# Altium schematic symbol library GPS.SchLib: 2 symbols
Pins are listed as number, name and electrical type; pins without a type are passive.

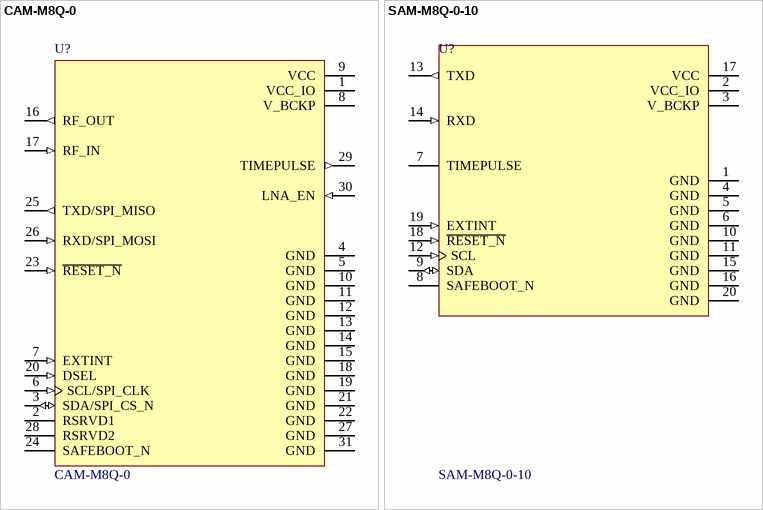
[diagram p0: symbols CAM-M8Q-0 to SAM-M8Q-0-10]

## CAM-M8Q-0
designator U?
CAM-M8 RF Receiver BeiDou, GLONASS, GNSS, GPS 1.575GHz -167dBm On-Board, Chip Module; MF: U-Blox America; SnapEDA_Link: https://www.snapeda.com/parts/CAM-M8Q-0/U-Blox%20America%20Inc./view-part/51184/?ref=snap; MP: CAM-M8Q-0; Package: SMD-31 u-blox; Digi-Key_Part_Number: 672-CAM-M8Q-0-10CT-ND; Digi-Key_Purchase_URL: https://www.digikey.com/product-detail/en/u-blox/CAM-M8Q-0-10/672-CAM-M8Q-0-10CT-ND/6150676?utm_source=snapeda&utm_medium=aggregator&utm_campaign=symbol; Value: *
footprint *LCC100P960X1400X210-31N
pins: 1 VCC_IO (power), 2 RSRVD1, 3 SDA/SPI_CS_N (io), 4 GND (power), 5 GND (power), 6 SCL/SPI_CLK (in), 7 EXTINT (in), 8 V_BCKP (power), 9 VCC (power), 10 GND (power), 11 GND (power), 12 GND (power), 13 GND (power), 14 GND (power), 15 GND (power), 16 RF_OUT (out), 17 RF_IN (in), 18 GND (power), 19 GND (power), 20 DSEL (in), 21 GND (power), 22 GND (power), 23 ~{RESET_N} (in), 24 SAFEBOOT_N, 25 TXD/SPI_MISO (out), 26 RXD/SPI_MOSI (in), 27 GND (power), 28 RSRVD2, 29 TIMEPULSE (out), 30 LNA_EN (in), 31 GND (power)

## SAM-M8Q-0-10
designator U?
CAM-M8 RF Receiver BeiDou, GLONASS, GNSS, GPS 1.575GHz -167dBm On-Board, Chip Module; MF: U-Blox America; SnapEDA_Link: https://www.snapeda.com/parts/SAM-M8Q-0-10/U-Blox%20America/view-part/?ref=search&t=SAM-M8Q-0-10; MP: SAM-M8Q-0-10; Package: 20-SMD Module; Digi-Key_Part_Number: 672-1054-1-ND; Digi-Key_Purchase_URL: https://www.digikey.com/product-detail/en/u-blox-america-inc/SAM-M8Q-0-10/672-1054-1-ND/7393573; Value: *; datasheet link: https://www.u-blox.com/sites/default/files/SAM-M8Q_HardwareIntegrationManual_%28UBX-16018358%29.pdf; Price: 25; Supplier 1: Digi-Key; Supplier Part Number 1: 672-1054-1-ND
footprint SAMM8Q010
pins: 1 GND (power), 2 VCC_IO (power), 3 V_BCKP (power), 4 GND (power), 5 GND (power), 6 GND (power), 7 TIMEPULSE, 8 SAFEBOOT_N, 9 SDA (io), 10 GND (power), 11 GND (power), 12 SCL (in), 13 TXD (out), 14 RXD (in), 15 GND (power), 16 GND (power), 17 VCC (power), 18 ~{RESET_N} (in), 19 EXTINT (in), 20 GND (power)